# Altium schematic symbol library DF634P396DSA.SchLib: 1 symbol
Pins are listed as number, name and electrical type; pins without a type are passive.

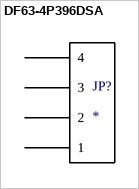
[diagram p0: symbol DF63-4P396DSA]

## DF63-4P396DSA
designator JP?
footprint DF63-4P-39DSA
pins: 1, 2, 3, 4